# EAGLE library part LTC3315B (library power)
LTC3315B - Switching Voltage Regulators Technical Specifications: VIN: -0.3 to 6V VOUT Range: 0.5V to VIN Dual Outputs Each with 2A Output Current 2mm × 2mm × 0.74mm LQFN Package Mouser: 512-FDN302P
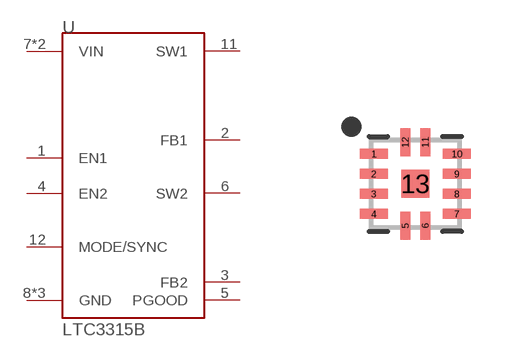
[diagram p13: symbol with the pads of LQFN_12LEAD(2X2); footprint LQFN_12LEAD(2X2)]

Designator prefix U

## LTC3315B  [LQFN_12LEAD(2X2)]
1  EN1
2  FB1
3  FB2
4  EN2
5  PGOOD
6  SW2
7  VIN
8  GND
9  GND
10  VIN
11  SW1
12  MODE/SYNC
13  GND

## Footprint LQFN_12LEAD(2X2) (pad centres in mm)
12-QFN, 0.50 mm pitch, 2.10 X 2.10 X 0.74 mm body, 0.70 X 0.70 mm thermal pad 12-pin QFN package with 0.50 mm pitch with body size 2.10 X 2.10 X 0.74 mm and thermal pad size 0.70 X 0.70 mm
smd 0.7 x 0.25: 1 -1.04,0.75; 2 -1.04,0.25; 3 -1.04,-0.25; 4 -1.04,-0.75; 7 1.04,-0.75; 8 1.04,-0.25; 9 1.04,0.25; 10 1.04,0.75
smd 0.25 x 0.7: 5 -0.25,-1.04; 6 0.25,-1.04; 11 0.25,1.04; 12 -0.25,1.04
smd 0.7 x 0.7: 13 0,0